# EAGLE library part ADUM1402 (library ADuM)
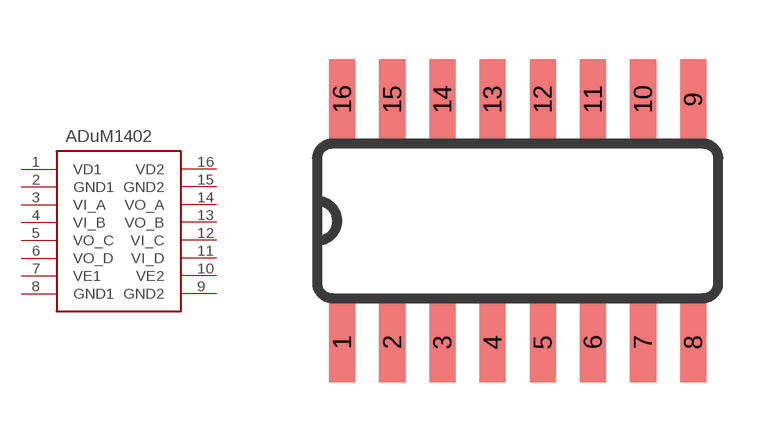
[diagram p1: symbol with the pads of SO16; footprint SO16]

Designator prefix IC

## ADUM1402SO16  [SO16]
1  VD1
2  GND1
3  VI_A
4  VI_B
5  VO_C
6  VO_D
7  VE1
8  GND1
9  GND2
10  VE2
11  VI_D
12  VI_C
13  VO_B
14  VO_A
15  GND2
16  VD2

## Footprint SO16 (pad centres in mm)
Small Outline Package
smd 0.66 x 2.032: 1 -4.445,-3.073; 2 -3.175,-3.073; 3 -1.905,-3.073; 4 -0.635,-3.073; 5 0.635,-3.073; 6 1.905,-3.073; 7 3.175,-3.073; 8 4.445,-3.073; 9 4.445,3.073; 10 3.175,3.073; 11 1.905,3.073; 12 0.635,3.073; 13 -0.635,3.073; 14 -1.905,3.073; 15 -3.175,3.073; 16 -4.445,3.073